# Altium schematic symbol library Sensor.SchLib: 3 symbols
Pins are listed as number, name and electrical type; pins without a type are passive.

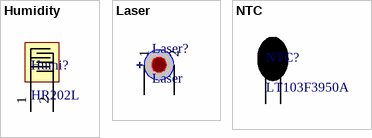
[diagram p0: symbols Humidity to NTC]

## Humidity
designator Humi?, comment HR202L
Attributes: HR202L; Purchase: http://item.taobao.com/item.htm?spm=686.1000925.1000774.22.q5wqEv&id=19093699983
footprint HR202L (Footprint not found)
pins: 1, 2

## Laser
designator Laser?
Attributes: *; Purchase: *
footprint Laser
footprint Battry_Connector
pins: 1, 2

## NTC
designator NTC?, comment LT103F3950A
Attributes: LT103F3950A; Purchase: http://www.exsense.com.cn/productshow.asp?id=16
footprint LT103F3950A
pins: 1, 2